# Altium schematic symbol library MICRON-MT28F640J3RP-11M.schlib: 1 symbol
Pins are listed as number, name and electrical type; pins without a type are passive.

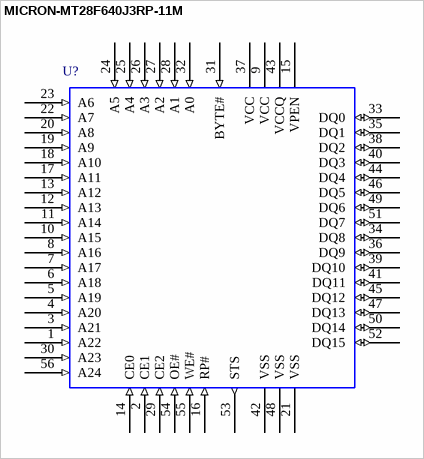
[diagram p0: symbol MICRON-MT28F640J3RP-11M]

## MICRON-MT28F640J3RP-11M
designator U?  (value not drawn)
128Mb  64Mb  32Mb Q-FLASH MEMORY; CircuitryPartsPN: MICRON-MT28F640J3RP-11M; ManufacturerPN: MT28F640J3RP-11M; Manufacturer: Micron Technology Inc; CategoryI: Integrated Circuits (ICs); CategoryII: NOR FLASH MEMORY; SchematicRev: A; DesignedBy: Circuitry Parts; MfgURL: http://www.micron.com/; PackageName: TSOP56; FootprintName: *; Value: *; DesignedOn: 7/18/2005 3:14:41 PM
pins: 1 A22 (in), 2 CE1 (in), 3 A21 (in), 4 A20 (in), 5 A19 (in), 6 A18 (in), 7 A17 (in), 8 A16 (in), 9 VCC (power), 10 A15 (in), 11 A14 (in), 12 A13 (in), 13 A12 (in), 14 CE0 (in), 15 VPEN (power), 16 RP# (in), 17 A11 (in), 18 A10 (in), 19 A9 (in), 20 A8 (in), 21 VSS (power), 22 A7 (in), 23 A6 (in), 24 A5 (in), 25 A4 (in), 26 A3 (in), 27 A2 (in), 28 A1 (in), 29 CE2 (in), 30 A23 (in), 31 BYTE# (in), 32 A0 (in), 33 DQ0 (io), 34 DQ8 (io), 35 DQ1 (io), 36 DQ9 (io), 37 VCC (power), 38 DQ2 (io), 39 DQ10 (io), 40 DQ3 (io), 41 DQ11 (io), 42 VSS (power), 43 VCCQ (power), 44 DQ4 (io), 45 DQ12 (io), 46 DQ5 (io), 47 DQ13 (io), 48 VSS (power), 49 DQ6 (io), 50 DQ14 (io), 51 DQ7 (io), 52 DQ15 (io), 53 STS (out), 54 OE# (in), 55 WE# (in), 56 A24 (in)